# Altium footprint library Voltage Regulators.PcbLib: 14 footprints
Each footprint in its own frame and in the unit in brackets; x right, y up, seen from the top. Pads: shape width x height; smd on the part's side, far side on the other; paste and mask are expansions set on the pad; w line width, h text height; cw(c..) or ccw(c..) is an arc to the next point about the centre after c.
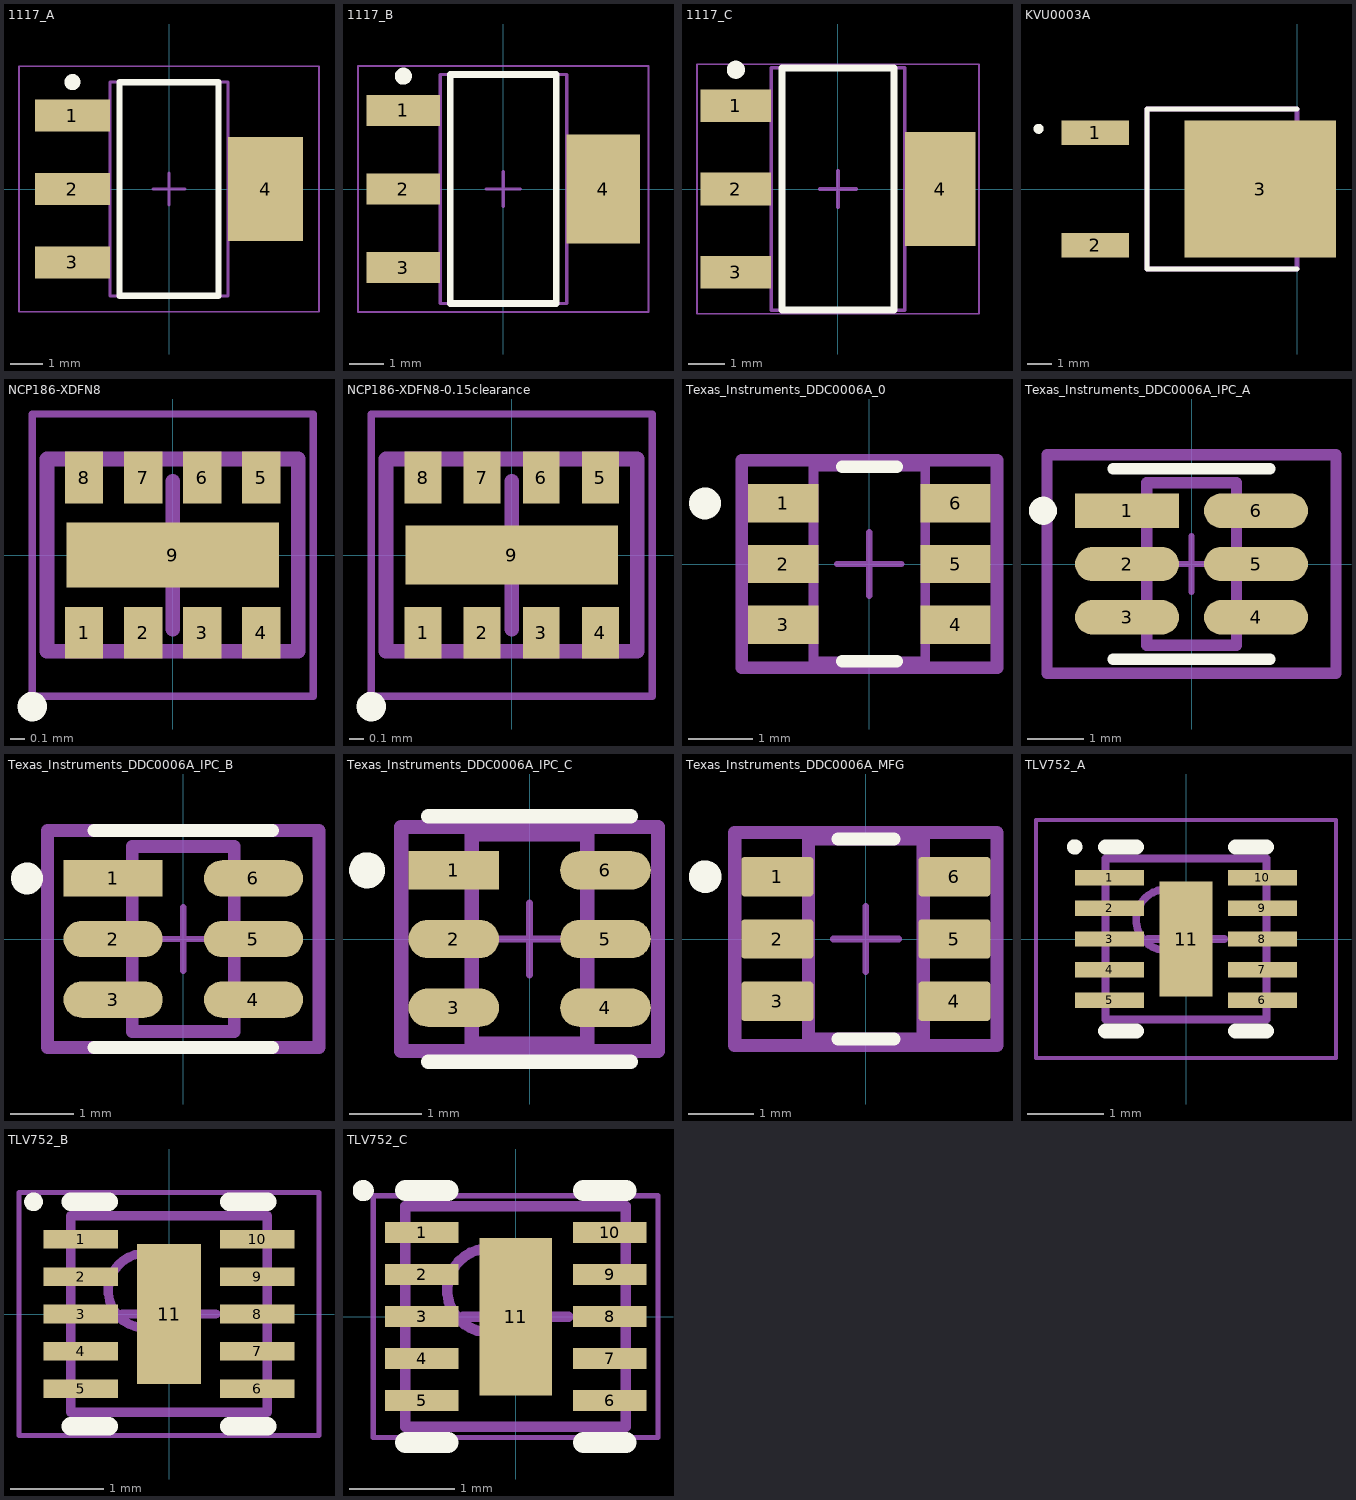
[diagram p0: the footprints below, top view; thin cyan lines are the x and y axes]

## 1117_A [mm] "SOT223, 4-Leads, Body 6.50x7.00mm (avg), Pitch 2.30mm, IPC Low Density"
height 1.8
pads (4):
  rect 2.35x1 smd: 1(-3.025,2.3) 2(-3.025,0) 3(-3.025,-2.3)
  rect 2.35x3.25 smd: 4(3.025,0)
Top Overlay:
  circle w0.25: c-3.025,3.35 r0.125
  lines w0.2: -1.55,-3.35 1.55,-3.35 1.55,3.35 -1.55,3.35 -1.55,-3.35
Mechanical 13:
  lines w0.1: -1.85,-3.35 1.85,-3.35 1.85,3.35 -1.85,3.35 -1.85,-3.35
Mechanical 15:
  lines w0.05: -4.7,-3.85 4.7,-3.85 4.7,3.85 -4.7,3.85 -4.7,-3.85
  lines w0.1: -0.5,0 0.5,0 ; 0,-0.5 0,0.5
3D body "1117_A.step": height 1.8, standoff 0, extent -3.5,-3.35 3.5,3.35

## 1117_B [mm] "SOT223, 4-Leads, Body 6.50x7.00mm (avg), Pitch 2.30mm, IPC Medium Density"
height 1.8
pads (4):
  rect 2.15x0.9 smd: 1(-2.925,2.3) 2(-2.925,0) 3(-2.925,-2.3)
  rect 2.15x3.2 smd: 4(2.925,0)
Top Overlay:
  circle w0.25: c-2.925,3.3 r0.125
  lines w0.2: -1.55,-3.35 1.55,-3.35 1.55,3.35 -1.55,3.35 -1.55,-3.35
Mechanical 13:
  lines w0.1: -1.85,-3.35 1.85,-3.35 1.85,3.35 -1.85,3.35 -1.85,-3.35
Mechanical 15:
  lines w0.05: -4.25,-3.6 4.25,-3.6 4.25,3.6 -4.25,3.6 -4.25,-3.6
  lines w0.1: -0.5,0 0.5,0 ; 0,-0.5 0,0.5
3D body "1117_B.step": height 1.8, standoff 0, extent -3.5,-3.35 3.5,3.35

## 1117_C [mm] "SOT223, 4-Leads, Body 6.50x7.00mm (avg), Pitch 2.30mm, IPC High Density"
height 1.8
pads (4):
  rect 1.95x0.9 smd: 1(-2.825,2.3) 2(-2.825,0) 3(-2.825,-2.3)
  rect 1.95x3.15 smd: 4(2.825,0)
Top Overlay:
  circle w0.25: c-2.825,3.3 r0.125
  lines w0.2: -1.55,-3.35 -1.55,3.35 1.55,3.35 1.55,-3.35 -1.55,-3.35
Mechanical 13:
  lines w0.1: -1.85,-3.35 -1.85,3.35 1.85,3.35 1.85,-3.35 -1.85,-3.35
Mechanical 15:
  lines w0.05: -3.9,-3.45 -3.9,3.45 3.9,3.45 3.9,-3.45 -3.9,-3.45
  lines w0.1: -0.5,0 0.5,0 ; 0,-0.5 0,0.5
3D body "1117_C.step": height 1.8, standoff 0, extent -3.5,-3.35 3.5,3.35

## KVU0003A [mm]
pads (3):
  rect 2.75x1 smd: 1(-8.2,2.29) 2(-8.2,-2.29)
  rect 6.15x5.55 smd: 3(-1.5,0)
Top Overlay:
  circle w0.2: c-10.501,2.444 r0.104
  lines w0.2: 0,-3.25 -6.1,-3.25 -6.1,3.25 0,3.25
Mechanical 15:
  lines w0.2: -6.1,-3.25 -6.1,3.25 0,3.25 0,-3.25 -6.1,-3.25
3D body "User Library-TO252AA.step": height 2.3, standoff -0.01, extent -9.041,-3.278 0.659,3.302

## NCP186-XDFN8 [mm] "The NCP186x series are CMOS LDO regulators featuring 1 A  output current. The input voltage is as low as 1.8 V and the output  voltage can be set from 0.8 V"
pads (9):
  rect 0.26x0.35 smd: 1(-0.6,-0.525) 2(-0.2,-0.525) 3(0.2,-0.525) 4(0.6,-0.525) 5(0.6,0.525) 6(0.2,0.525) 7(-0.2,0.525) 8(-0.6,0.525)
  rect 1.44x0.44 smd: 9(0,0)
Top Overlay:
  circle w0.1: c-0.95,-1.025 r0.05
Mechanical 13:
  lines w0.1: -0.85,-0.65 -0.85,0.65 0.85,0.65 0.85,-0.65 -0.85,-0.65
Mechanical 15:
  lines w0.05: -0.95,-0.955 -0.95,0.955 0.95,0.955 0.95,-0.955 -0.95,-0.955
  lines w0.1: -0.5,0 0.5,0 ; 0,-0.5 0,0.5
3D body "SON40P120X45_HS-9L.step": height 0.45, standoff 0, extent -0.85,-0.651 0.85,0.651

## NCP186-XDFN8-0.15clearance [mm] "The NCP186x series are CMOS LDO regulators featuring 1 A  output current. The input voltage is as low as 1.8 V and the output  voltage can be set from 0.8 V"
pads (9):
  rect 0.25x0.35 smd: 1(-0.6,-0.525) 2(-0.2,-0.525) 3(0.2,-0.525) 4(0.6,-0.525) 5(0.6,0.525) 6(0.2,0.525) 7(-0.2,0.525) 8(-0.6,0.525)
  rect 1.44x0.4 smd: 9(0,0)
Top Overlay:
  circle w0.1: c-0.95,-1.025 r0.05
Mechanical 13:
  lines w0.1: -0.85,-0.65 -0.85,0.65 0.85,0.65 0.85,-0.65 -0.85,-0.65
Mechanical 15:
  lines w0.05: -0.95,-0.955 -0.95,0.955 0.95,0.955 0.95,-0.955 -0.95,-0.955
  lines w0.1: -0.5,0 0.5,0 ; 0,-0.5 0,0.5
3D body "SON40P120X45_HS-9L.step": height 0.45, standoff 0, extent -0.85,-0.651 0.85,0.651

## Texas_Instruments_DDC0006A_0 [mm]
pads (6):
  rect 1.1x0.6 smd paste+0 mask+0: 1(-1.35,0.95) 2(-1.35,0) 3(-1.35,-0.95) 4(1.35,-0.95) 5(1.35,0) 6(1.35,0.95)
Top Overlay:
  circle w0.25: c-2.575,0.95 r0.125
  lines w0.2: -0.425,-1.525 0.425,-1.525 ; -0.425,1.525 0.425,1.525
Mechanical 10:
  lines w0.2: -2,-1.625 2,-1.625 2,1.625 -2,1.625 -2,-1.625
  text "TPS561208DDCR" at -2.032,2.032 h1
Mechanical 12:
  lines w0.15: -0.875,-1.525 0.875,-1.525 0.875,1.525 -0.875,1.525 -0.875,-1.525
Mechanical 15:
  lines w0.1: -0.5,0 0.5,0 ; 0,-0.5 0,0.5
  lines w0.2: -2,-1.625 2,-1.625 2,1.625 -2,1.625 -2,-1.625
3D body "IC_Texas_Instruments_TPS561208DDCR_eec.STEP": height 0.25, standoff 0, extent -2,-1.625 2,1.625

## Texas_Instruments_DDC0006A_IPC_A [mm]
pads (6):
  rect 1.854x0.612 smd paste+0 mask+0: 1(-1.15,0.95)
  rrect100% 1.854x0.612 smd paste+0 mask+0: 2(-1.15,0) 3(-1.15,-0.95) 4(1.15,-0.95) 5(1.15,0) 6(1.15,0.95)
Top Overlay:
  circle w0.25: c-2.65,0.95 r0.125
  lines w0.2: -1.4,-1.7 1.4,-1.7 ; -1.4,1.7 1.4,1.7
Mechanical 10:
  lines w0.2: -2.577,-1.95 2.577,-1.95 2.577,1.95 -2.577,1.95 -2.577,-1.95
  text ".Designator" at 0,0.188 h1
Mechanical 12:
  lines w0.2: -0.8,-1.45 0.8,-1.45 0.8,1.45 -0.8,1.45 -0.8,-1.45
Mechanical 15:
  lines w0.1: -0.5,0 0.5,0 ; 0,-0.5 0,0.5
  lines w0.2: -2.577,-1.95 2.577,-1.95 2.577,1.95 -2.577,1.95 -2.577,-1.95
3D body "IC_Texas_Instruments_TPS562201DDCR_eec.STEP": height 0.25, standoff 0, extent -2.577,-1.95 2.577,1.95

## Texas_Instruments_DDC0006A_IPC_B [mm]
pads (6):
  rect 1.554x0.572 smd paste+0 mask+0: 1(-1.1,0.95)
  rrect100% 1.554x0.572 smd paste+0 mask+0: 2(-1.1,0) 3(-1.1,-0.95) 4(1.1,-0.95) 5(1.1,0) 6(1.1,0.95)
Top Overlay:
  circle w0.25: c-2.45,0.95 r0.125
  lines w0.2: -1.4,-1.7 1.4,-1.7 ; -1.4,1.7 1.4,1.7
Mechanical 10:
  lines w0.2: -2.127,-1.7 -2.127,1.7 2.127,1.7 2.127,-1.7 -2.127,-1.7
  text ".Designator" at 0,0.188 h1
Mechanical 12:
  lines w0.2: -0.8,-1.45 -0.8,1.45 0.8,1.45 0.8,-1.45 -0.8,-1.45
Mechanical 15:
  lines w0.1: -0.5,0 0.5,0 ; 0,-0.5 0,0.5
  lines w0.2: -2.127,-1.7 -2.127,1.7 2.127,1.7 2.127,-1.7 -2.127,-1.7
3D body "IC_Texas_Instruments_TPS562201DDCR_eec.STEP": height 0.25, standoff 0, extent -2.127,-1.7 2.127,1.7

## Texas_Instruments_DDC0006A_IPC_C [mm]
pads (6):
  rect 1.254x0.532 smd paste+0 mask+0: 1(-1.05,0.95)
  rrect100% 1.254x0.532 smd paste+0 mask+0: 2(-1.05,0) 3(-1.05,-0.95) 4(1.05,-0.95) 5(1.05,0) 6(1.05,0.95)
Top Overlay:
  circle w0.25: c-2.25,0.95 r0.125
  lines w0.2: -1.4,-1.7 1.4,-1.7 ; -1.4,1.7 1.4,1.7
Mechanical 10:
  lines w0.2: -1.777,-1.55 1.777,-1.55 1.777,1.55 -1.777,1.55 -1.777,-1.55
  text ".Designator" at 0,0.188 h1
Mechanical 12:
  lines w0.2: -0.8,-1.45 0.8,-1.45 0.8,1.45 -0.8,1.45 -0.8,-1.45
Mechanical 15:
  lines w0.1: -0.5,0 0.5,0 ; 0,-0.5 0,0.5
  lines w0.2: -1.777,-1.55 1.777,-1.55 1.777,1.55 -1.777,1.55 -1.777,-1.55
3D body "IC_Texas_Instruments_TPS562201DDCR_eec.STEP": height 0.25, standoff 0, extent -1.777,-1.55 1.777,1.55

## Texas_Instruments_DDC0006A_MFG [mm]
pads (6):
  rrect17% 1.1x0.6 smd paste+0 mask+0: 1(-1.35,0.95) 2(-1.35,0) 3(-1.35,-0.95) 4(1.35,-0.95) 5(1.35,0) 6(1.35,0.95)
Top Overlay:
  circle w0.25: c-2.45,0.95 r0.125
  lines w0.2: -0.425,-1.525 0.425,-1.525 ; -0.425,1.525 0.425,1.525
Mechanical 10:
  lines w0.2: -2,-1.625 2,-1.625 2,1.625 -2,1.625 -2,-1.625
  text ".Designator" at 0,0.188 h1
Mechanical 12:
  lines w0.2: -0.875,-1.525 0.875,-1.525 0.875,1.525 -0.875,1.525 -0.875,-1.525
Mechanical 15:
  lines w0.1: -0.5,0 0.5,0 ; 0,-0.5 0,0.5
  lines w0.2: -2,-1.625 2,-1.625 2,1.625 -2,1.625 -2,-1.625
3D body "IC_Texas_Instruments_TPS562201DDCR_eec.STEP": height 0.25, standoff 0, extent -2,-1.625 2,1.625

## TLV752_A [mm] "SON, 10-Leads, Body 2.00x2.00mm, Pitch 0.40mm, Thermal Pad 1.50x0.69mm, IPC Low Density"
height 0.8
pads (11):
  rect 0.9x0.2 smd: 1(-0.995,0.8) 2(-0.995,0.4) 3(-0.995,0) 4(-0.995,-0.4) 5(-0.995,-0.8) 6(0.995,-0.8) 7(0.995,-0.4) 8(0.995,0) 9(0.995,0.4) 10(0.995,0.8)
  rect 0.69x1.5 smd: 11(0,0)
Top Overlay:
  circle w0.1: c-1.45,1.2 r0.05
  lines w0.2: -1.05,-1.2 -0.645,-1.2 ; -1.05,1.2 -0.645,1.2 ; 0.645,-1.2 1.05,-1.2 ; 0.645,1.2 1.05,1.2
Mechanical 13:
  circle w0.1: c-0.25,0.25 r0.4
  lines w0.1: -1.05,-1.05 1.05,-1.05 1.05,1.05 -1.05,1.05 -1.05,-1.05
Mechanical 15:
  lines w0.05: -1.955,-1.55 1.955,-1.55 1.955,1.55 -1.955,1.55 -1.955,-1.55
  lines w0.1: -0.5,0 0.5,0 ; 0,-0.5 0,0.5
3D body "TLV752_A.step": height 0.8, standoff 0, extent -1.051,-1.05 1.051,1.05

## TLV752_B [mm] "SON, 10-Leads, Body 2.00x2.00mm, Pitch 0.40mm, Thermal Pad 1.50x0.69mm, IPC Medium Density"
height 0.8
pads (11):
  rect 0.8x0.2 smd: 1(-0.945,0.8) 2(-0.945,0.4) 3(-0.945,0) 4(-0.945,-0.4) 5(-0.945,-0.8) 6(0.945,-0.8) 7(0.945,-0.4) 8(0.945,0) 9(0.945,0.4) 10(0.945,0.8)
  rect 0.69x1.5 smd: 11(0,0)
Top Overlay:
  circle w0.1: c-1.45,1.2 r0.05
  lines w0.2: -1.05,-1.2 -0.645,-1.2 ; -1.05,1.2 -0.645,1.2 ; 0.645,-1.2 1.05,-1.2 ; 0.645,1.2 1.05,1.2
Mechanical 13:
  circle w0.1: c-0.25,0.25 r0.4
  lines w0.1: -1.05,-1.05 1.05,-1.05 1.05,1.05 -1.05,1.05 -1.05,-1.05
Mechanical 15:
  lines w0.05: -1.605,-1.3 1.605,-1.3 1.605,1.3 -1.605,1.3 -1.605,-1.3
  lines w0.1: -0.5,0 0.5,0 ; 0,-0.5 0,0.5
3D body "TLV752_B.step": height 0.8, standoff 0, extent -1.051,-1.05 1.051,1.05

## TLV752_C [mm] "SON, 10-Leads, Body 2.00x2.00mm, Pitch 0.40mm, Thermal Pad 1.50x0.69mm, IPC High Density"
height 0.8
pads (11):
  rect 0.7x0.2 smd: 1(-0.895,0.8) 2(-0.895,0.4) 3(-0.895,0) 4(-0.895,-0.4) 5(-0.895,-0.8) 6(0.895,-0.8) 7(0.895,-0.4) 8(0.895,0) 9(0.895,0.4) 10(0.895,0.8)
  rect 0.69x1.5 smd: 11(0,0)
Top Overlay:
  circle w0.1: c-1.45,1.2 r0.05
  lines w0.2: -1.05,-1.2 -0.645,-1.2 ; -1.05,1.2 -0.645,1.2 ; 0.645,-1.2 1.05,-1.2 ; 0.645,1.2 1.05,1.2
Mechanical 13:
  circle w0.1: c-0.25,0.25 r0.4
  lines w0.1: -1.05,-1.05 1.05,-1.05 1.05,1.05 -1.05,1.05 -1.05,-1.05
Mechanical 15:
  lines w0.05: -1.355,-1.15 1.355,-1.15 1.355,1.15 -1.355,1.15 -1.355,-1.15
  lines w0.1: -0.5,0 0.5,0 ; 0,-0.5 0,0.5
3D body "TLV752_C.step": height 0.8, standoff 0, extent -1.051,-1.05 1.051,1.05